# Altium footprint library 8channel.PcbLib: 84 footprints (part 1 of 6)
Each footprint in its own frame and in the unit in brackets; x right, y up, seen from the top. Pads: shape width x height; smd on the part's side, far side on the other; paste and mask are expansions set on the pad; w line width, h text height; cw(c..) or ccw(c..) is an arc to the next point about the centre after c.
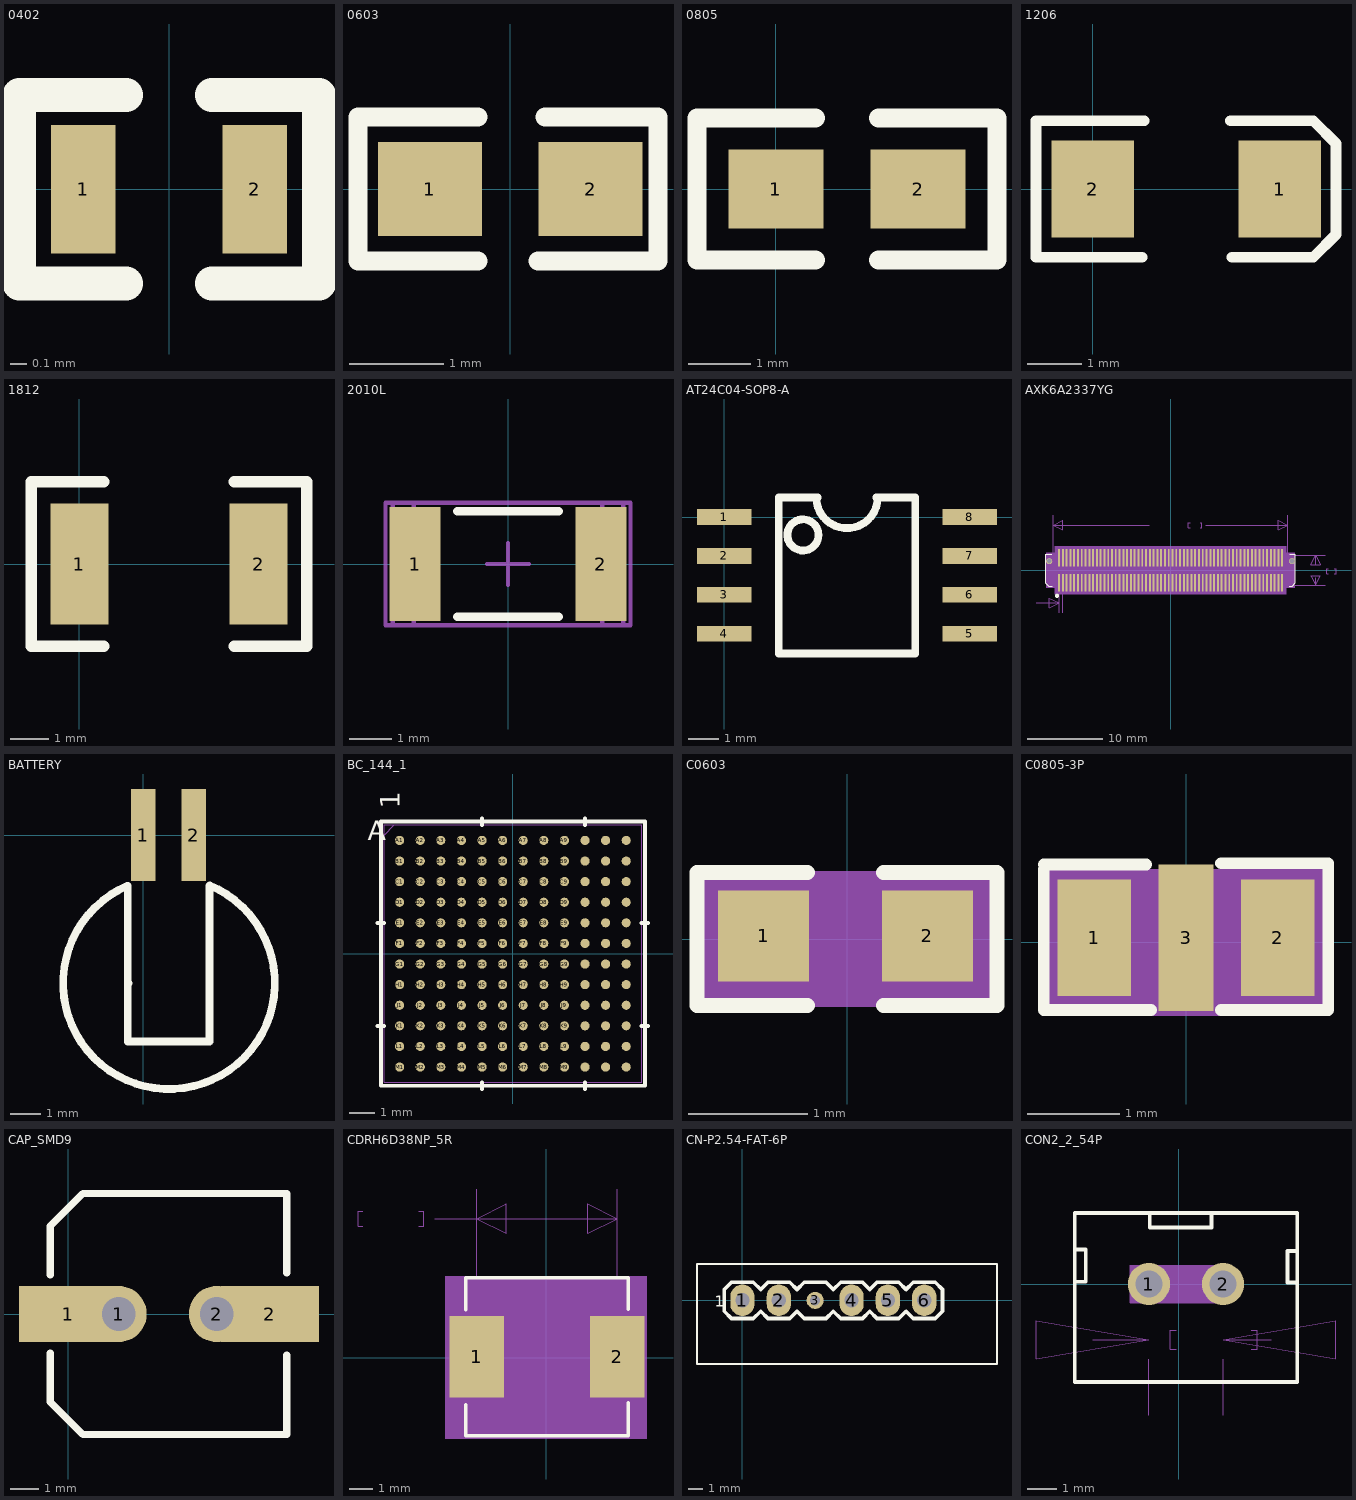
[diagram p0: the footprints below, top view; thin cyan lines are the x and y axes]

## 0402 [mil]
height 230
pads (2):
  rect 15x30 smd: 1(-20,0) 2(20,0)
Top Overlay:
  lines w7.87: -10,-22 -35,-22 -35,22 -10,22 ; 10,-22 35,-22 35,22 10,22

## 0603 [mm]
height 5.842
pads (2):
  rect 1.1x1 smd: 1(-0.85,0) 2(0.85,0)
Top Overlay:
  lines w0.2: -0.342,-0.762 -1.612,-0.762 -1.612,0.762 -0.342,0.762 ; 0.293,-0.762 1.563,-0.762 1.563,0.762 0.367,0.762

## 0805 [mil]
height 230
pads (2):
  rect 60x50 smd: 1(0,0) 2(90,0)
Top Overlay:
  lines w12: 25,-45 -50,-45 -50,45 25,45 ; 65,-45 140,-45 140,45 65,45

## 1206 [mm]
height 5.842
pads (2):
  rect 1.524x1.8 smd: 1(3.45,0) 2(0,0)
Top Overlay:
  lines w0.2: 0.91,-1.26 -1.05,-1.26 -1.05,1.26 0.95,1.26 ; 2.54,1.26 4.07,1.26 4.49,0.84 4.49,-0.84 4.07,-1.26 2.57,-1.26

## 1812 [mil]
pads (2):
  rect 60x125 smd: 1(0,0.06) 2(185,0.06)
Top Overlay:
  lines w12: 25,-84.94 -50,-84.94 -50,85.06 25,85.06 ; 160,-84.94 235,-84.94 235,85.06 160,85.06

## 2010L [mm] "pitch=4.3mm"
height 0.71
pads (2):
  rect 1.2x2.7 smd: 1(-2.2,0) 2(2.2,0)
Top Overlay:
  lines w0.2: -1.2,-1.25 1.2,-1.25 ; -1.2,1.25 1.2,1.25
Mechanical 5:
  lines w0.1: -2.73,-1.45 -2.73,1.45 2.73,1.45 2.73,-1.45 -2.73,-1.45
  text ".Designator" at 4.191,-0.508 h0.76
Mechanical 13:
  lines w0.1: -2.23,-1.45 -2.23,1.45 ; 2.23,-1.45 2.23,1.45 ; -2.73,-1.45 2.73,-1.45 2.73,1.45 -2.73,1.45 -2.73,-1.45
Mechanical 15:
  lines w0.1: -0.5,0 0.5,0 ; 0,-0.5 0,0.5 ; -2.9,-1.45 -2.9,1.45 2.9,1.45 2.9,-1.45 -2.9,-1.45
3D body: height 1.66, standoff 0, extent -2.729,-1.449 -2.231,1.449
3D body: height 1.66, standoff 0, extent -2.229,-1.449 2.229,1.449
3D body: height 1.66, standoff 0, extent 2.231,-1.449 2.729,1.449

## AT24C04-SOP8-A [mil]
pads (8):
  rect 70x20 smd: 1(0,0) 2(0,-50) 3(0,-100) 4(0,-150) 5(315,-150) 6(315,-100) 7(315,-50) 8(315,0)
Top Overlay:
  circle w10: c101,-23 r20
  lines w10: 118.13,25 ccw(c157.5,25) 196.87,25 ; 120,25 70,25 70,-175 245,-175 245,25 195,25

## AXK6A2337YG [mm] "AXK6A2337YG"
pads (122):
  rect 0.25x2.3 smd: 1(-14.75,-1.65) 2(-14.75,1.65) 3(-14.25,-1.65) 4(-14.25,1.65) 5(-13.75,-1.65) 6(-13.75,1.65) 7(-13.25,-1.65) 8(-13.25,1.65) 9(-12.75,-1.65) 10(-12.75,1.65) 11(-12.25,-1.65) 12(-12.25,1.65) 13(-11.75,-1.65) 14(-11.75,1.65) 15(-11.25,-1.65) 16(-11.25,1.65) 17(-10.75,-1.65) 18(-10.75,1.65) 19(-10.25,-1.65) 20(-10.25,1.65) 21(-9.75,-1.65) 22(-9.75,1.65) 23(-9.25,-1.65) 24(-9.25,1.65) 25(-8.75,-1.65) 26(-8.75,1.65) 27(-8.25,-1.65) 28(-8.25,1.65) 29(-7.75,-1.65) 30(-7.75,1.65) 31(-7.25,-1.65) 32(-7.25,1.65) 33(-6.75,-1.65) 34(-6.75,1.65) 35(-6.25,-1.65) 36(-6.25,1.65) 37(-5.75,-1.65) 38(-5.75,1.65) 39(-5.25,-1.65) 40(-5.25,1.65) 41(-4.75,-1.65) 42(-4.75,1.65) 43(-4.25,-1.65) 44(-4.25,1.65) 45(-3.75,-1.65) 46(-3.75,1.65) 47(-3.25,-1.65) 48(-3.25,1.65) 49(-2.75,-1.65) 50(-2.75,1.65) 51(-2.25,-1.65) 52(-2.25,1.65) 53(-1.75,-1.65) 54(-1.75,1.65) 55(-1.25,-1.65) 56(-1.25,1.65) 57(-0.75,-1.65) 58(-0.75,1.65) 59(-0.25,-1.65) 60(-0.25,1.65) 61(0.25,-1.65) 62(0.25,1.65) 63(0.75,-1.65) 64(0.75,1.65) 65(1.25,-1.65) 66(1.25,1.65) 67(1.75,-1.65) 68(1.75,1.65) 69(2.25,-1.65) 70(2.25,1.65) 71(2.75,-1.65) 72(2.75,1.65) 73(3.25,-1.65) 74(3.25,1.65) 75(3.75,-1.65) 76(3.75,1.65) 77(4.25,-1.65) 78(4.25,1.65) 79(4.75,-1.65) 80(4.75,1.65) 81(5.25,-1.65) 82(5.25,1.65) 83(5.75,-1.65) 84(5.75,1.65) 85(6.25,-1.65) 86(6.25,1.65) 87(6.75,-1.65) 88(6.75,1.65) 89(7.25,-1.65) 90(7.25,1.65) 91(7.75,-1.65) 92(7.75,1.65) 93(8.25,-1.65) 94(8.25,1.65) 95(8.75,-1.65) 96(8.75,1.65) 97(9.25,-1.65) 98(9.25,1.65) 99(9.75,-1.65) 100(9.75,1.65) 101(10.25,-1.65) 102(10.25,1.65) 103(10.75,-1.65) 104(10.75,1.65) 105(11.25,-1.65) 106(11.25,1.65) 107(11.75,-1.65) 108(11.75,1.65) 109(12.25,-1.65) 110(12.25,1.65) 111(12.75,-1.65) 112(12.75,1.65) 113(13.25,-1.65) 114(13.25,1.65) 115(13.75,-1.65) 116(13.75,1.65) 117(14.25,-1.65) 118(14.25,1.65) 119(14.75,-1.65) 120(14.75,1.65)
  round 0.8 hole 0.65: 121(-16.05,1.2) 122(16.05,1.2)
Top Overlay:
  circle w0.254: c-15.037,-3.378 r0.148
  lines w0.152: -15.697,2.1 -16.504,2.1 -16.504,-1.725 -16.129,-2.1 -15.621,-2.1 ; 15.697,-2.1 16.055,-2.1 16.504,-1.651 16.504,2.1 15.773,2.1
  text ".Designator" at -1.117,-4.873 h0.76
Mechanical 10:
  text "98" at 9.25,1.142 h0.76
  text "100" at 9.75,0.888 h0.76
  text "121" at -16.05,0.438 h0.76
  text "122" at 16.05,0.438 h0.76
  text "31" at -7.25,-2.158 h0.76
  text "39" at -5.25,-2.158 h0.76
  text "49" at -2.75,-2.158 h0.76
  text "7" at -13.25,-1.904 h0.76
  text "93" at 8.25,-2.158 h0.76
  text "97" at 9.25,-2.158 h0.76
  text "9" at -12.75,-1.904 h0.76
  text "99" at 9.75,-2.158 h0.76
  text "79" at 4.75,-2.158 h0.76
  text "61" at 0.25,-2.158 h0.76
  text "57" at -0.75,-2.158 h0.76
  text "63" at 0.75,-2.158 h0.76
  text "73" at 3.25,-2.158 h0.76
  text "101" at 10.25,-2.412 h0.76
  text "102" at 10.25,0.888 h0.76
  text "95" at 8.75,-2.158 h0.76
  text "96" at 8.75,1.142 h0.76
  text "89" at 7.25,-2.158 h0.76
  text "90" at 7.25,1.142 h0.76
  text "83" at 5.75,-2.158 h0.76
  text "84" at 5.75,1.142 h0.76
  text "77" at 4.25,-2.158 h0.76
  text "78" at 4.25,1.142 h0.76
  text "71" at 2.75,-2.158 h0.76
  text "72" at 2.75,1.142 h0.76
  text "65" at 1.25,-2.158 h0.76
  text "66" at 1.25,1.142 h0.76
  text "59" at -0.25,-2.158 h0.76
  text "60" at -0.25,1.142 h0.76
  text "53" at -1.75,-2.158 h0.76
  text "47" at -3.25,-2.158 h0.76
  text "48" at -3.25,1.142 h0.76
  text "41" at -4.75,-2.158 h0.76
  text "42" at -4.75,1.142 h0.76
  text "35" at -6.25,-2.158 h0.76
  text "36" at -6.25,1.142 h0.76
  text "29" at -7.75,-2.158 h0.76
  text "30" at -7.75,1.142 h0.76
  text "23" at -9.25,-2.158 h0.76
  text "24" at -9.25,1.142 h0.76
  text "17" at -10.75,-2.158 h0.76
  text "18" at -10.75,1.142 h0.76
  text "11" at -12.25,-2.158 h0.76
  text "12" at -12.25,1.142 h0.76
  text "5" at -13.75,-1.904 h0.76
  text "6" at -13.75,1.396 h0.76
  text "54" at -1.75,1.142 h0.76
  text "107" at 11.75,-2.412 h0.76
  text "109" at 12.25,-2.412 h0.76
  text "108" at 11.75,0.888 h0.76
  text "110" at 12.25,0.888 h0.76
  text "111" at 12.75,-2.412 h0.76
  text "113" at 13.25,-2.412 h0.76
  text "112" at 12.75,0.888 h0.76
  text "114" at 13.25,0.888 h0.76
  text "115" at 13.75,-2.412 h0.76
  text "117" at 14.25,-2.412 h0.76
  text "119" at 14.75,-2.412 h0.76
  text "116" at 13.75,0.888 h0.76
  text "118" at 14.25,0.888 h0.76
  text "120" at 14.75,0.888 h0.76
  text "75" at 3.75,-2.158 h0.76
  text "88" at 6.75,1.142 h0.76
  text "81" at 5.25,-2.158 h0.76
  text "1" at -14.75,-1.904 h0.76
  text "62" at 0.25,1.142 h0.76
  text "50" at -2.75,1.142 h0.76
  text "52" at -2.25,1.142 h0.76
  text "58" at -0.75,1.142 h0.76
  text "64" at 0.75,1.142 h0.76
  text "82" at 5.25,1.142 h0.76
  text "74" at 3.25,1.142 h0.76
  text "68" at 1.75,1.142 h0.76
  text "37" at -5.75,-2.158 h0.76
  text "33" at -6.75,-2.158 h0.76
  text "14" at -11.75,1.142 h0.76
  text "26" at -8.75,1.142 h0.76
  text "16" at -11.25,1.142 h0.76
  text "20" at -10.25,1.142 h0.76
  text "22" at -9.75,1.142 h0.76
  text "38" at -5.75,1.142 h0.76
  text "34" at -6.75,1.142 h0.76
  text "40" at -5.25,1.142 h0.76
  text "44" at -4.25,1.142 h0.76
  text "28" at -8.25,1.142 h0.76
  text "8" at -13.25,1.396 h0.76
  text "4" at -14.25,1.396 h0.76
  text "2" at -14.75,1.396 h0.76
  text "10" at -12.75,1.142 h0.76
  text "32" at -7.25,1.142 h0.76
  text "91" at 7.75,-2.158 h0.76
  text "45" at -3.75,-2.158 h0.76
  text "46" at -3.75,1.142 h0.76
  text "85" at 6.25,-2.158 h0.76
  text "25" at -8.75,-2.158 h0.76
  text "55" at -1.25,-2.158 h0.76
  text "94" at 8.25,1.142 h0.76
  text "87" at 6.75,-2.158 h0.76
  text "3" at -14.25,-1.904 h0.76
  text "27" at -8.25,-2.158 h0.76
  text "80" at 4.75,1.142 h0.76
  text "70" at 2.25,1.142 h0.76
  text "15" at -11.25,-2.158 h0.76
  text "13" at -11.75,-2.158 h0.76
  text "19" at -10.25,-2.158 h0.76
  text "21" at -9.75,-2.158 h0.76
  text "76" at 3.75,1.142 h0.76
  text "56" at -1.25,1.142 h0.76
  text "92" at 7.75,1.142 h0.76
  text "103" at 10.75,-2.412 h0.76
  text "105" at 11.25,-2.412 h0.76
  text "104" at 10.75,0.888 h0.76
  text "106" at 11.25,0.888 h0.76
  text "67" at 1.75,-2.158 h0.76
  text "86" at 6.25,1.142 h0.76
  text "51" at -2.25,-2.158 h0.76
  text "43" at -4.25,-2.158 h0.76
  text "69" at 2.25,-2.158 h0.76
Mechanical 11:
  lines w0.025: -17.799,-4.318 -14.75,-4.318 ; -15.5,0.22 -15.5,7.239 ; -14.75,-5.588 -14.75,-3.27 ; -14.25,-5.588 -14.25,-3.27 ; -2.838,5.969 -15.5,5.969 ; 2.565,5.651 2.362,5.651 2.362,6.286 2.565,6.286 ; 3.937,5.651 4.14,5.651 4.14,6.286 3.937,6.286 ; 4.616,5.969 15.5,5.969 ; 15.5,2.32 15.5,7.239 ; 16.02,-2 20.447,-2 ; 16.02,2 20.447,2 ; 19.177,-0.972 19.177,-2 ; 19.177,0.718 19.177,2 ; 20.853,-0.445 20.65,-0.445 20.65,0.191 20.853,0.191 ; 21.666,-0.445 21.869,-0.445 21.869,0.191 21.666,0.191 ; -15.5,5.969 -14.23,5.334 -14.23,6.604 -15.5,5.969 ; -14.75,-4.318 -16.02,-3.683 -16.02,-4.953 -14.75,-4.318 ; 15.5,5.969 14.23,6.604 14.23,5.334 15.5,5.969 ; 19.177,-2 19.812,-0.73 18.542,-0.73 19.177,-2 ; 19.177,2 18.542,0.73 19.812,0.73 19.177,2
  text "31" at 2.769,5.651 h0.76
  text "1220.48" at -2.311,5.651 h0.76
  text "4" at 21.057,-0.445 h0.76
  text "157.48" at 16.535,-0.445 h0.76
  text "0.5" at -13.31,-4.635 h0.76
  text "19.69" at -17.272,-4.635 h0.76
Mechanical 12:
  region: -16.44,2.291 -15.315,2.291 -15.315,3.19 15.315,3.19 15.315,2.291 16.44,2.291 16.44,-2.291 15.315,-2.291 15.315,-3.19 -15.315,-3.19 -15.315,-2.291 -16.44,-2.291
3D body: height 3.81, standoff 0, extent -16.44,-3.19 16.44,3.19

## BATTERY [mm]
pads (2):
  rect 0.8x3 smd: 1(0,0) 2(1.651,0)
Top Overlay:
  lines w0.254: -0.508,-4.851 -0.483,-4.826 ; 2.159,-1.651 2.159,-6.731 -0.508,-6.731 -0.508,-1.651 ccw(c0.838,-4.826) 2.163,-1.642

## BC_144_1 [mm]
pads (144):
  round 0.356 smd: A1(-4.4,4.4) A2(-3.6,4.4) A3(-2.8,4.4) A4(-2,4.4) A5(-1.2,4.4) A6(-0.4,4.4) A7(0.4,4.4) A8(1.2,4.4) A9(2,4.4) A10(2.8,4.4) A11(3.6,4.4) A12(4.4,4.4) B1(-4.4,3.6) B2(-3.6,3.6) B3(-2.8,3.6) B4(-2,3.6) B5(-1.2,3.6) B6(-0.4,3.6) B7(0.4,3.6) B8(1.2,3.6) B9(2,3.6) B10(2.8,3.6) B11(3.6,3.6) B12(4.4,3.6) C1(-4.4,2.8) C2(-3.6,2.8) C3(-2.8,2.8) C4(-2,2.8) C5(-1.2,2.8) C6(-0.4,2.8) C7(0.4,2.8) C8(1.2,2.8) C9(2,2.8) C10(2.8,2.8) C11(3.6,2.8) C12(4.4,2.8) D1(-4.4,2) D2(-3.6,2) D3(-2.8,2) D4(-2,2) D5(-1.2,2) D6(-0.4,2) D7(0.4,2) D8(1.2,2) D9(2,2) D10(2.8,2) D11(3.6,2) D12(4.4,2) E1(-4.4,1.2) E2(-3.6,1.2) E3(-2.8,1.2) E4(-2,1.2) E5(-1.2,1.2) E6(-0.4,1.2) E7(0.4,1.2) E8(1.2,1.2) E9(2,1.2) E10(2.8,1.2) E11(3.6,1.2) E12(4.4,1.2) F1(-4.4,0.4) F2(-3.6,0.4) F3(-2.8,0.4) F4(-2,0.4) F5(-1.2,0.4) F6(-0.4,0.4) F7(0.4,0.4) F8(1.2,0.4) F9(2,0.4) F10(2.8,0.4) F11(3.6,0.4) F12(4.4,0.4) G1(-4.4,-0.4) G2(-3.6,-0.4) G3(-2.8,-0.4) G4(-2,-0.4) G5(-1.2,-0.4) G6(-0.4,-0.4) G7(0.4,-0.4) G8(1.2,-0.4) G9(2,-0.4) G10(2.8,-0.4) G11(3.6,-0.4) G12(4.4,-0.4) H1(-4.4,-1.2) H2(-3.6,-1.2) H3(-2.8,-1.2) H4(-2,-1.2) H5(-1.2,-1.2) H6(-0.4,-1.2) H7(0.4,-1.2) H8(1.2,-1.2) H9(2,-1.2) H10(2.8,-1.2) H11(3.6,-1.2) H12(4.4,-1.2) J1(-4.4,-2) J2(-3.6,-2) J3(-2.8,-2) J4(-2,-2) J5(-1.2,-2) J6(-0.4,-2) J7(0.4,-2) J8(1.2,-2) J9(2,-2) J10(2.8,-2) J11(3.6,-2) J12(4.4,-2) K1(-4.4,-2.8) K2(-3.6,-2.8) K3(-2.8,-2.8) K4(-2,-2.8) K5(-1.2,-2.8) K6(-0.4,-2.8) K7(0.4,-2.8) K8(1.2,-2.8) K9(2,-2.8) K10(2.8,-2.8) K11(3.6,-2.8) K12(4.4,-2.8) L1(-4.4,-3.6) L2(-3.6,-3.6) L3(-2.8,-3.6) L4(-2,-3.6) L5(-1.2,-3.6) L6(-0.4,-3.6) L7(0.4,-3.6) L8(1.2,-3.6) L9(2,-3.6) L10(2.8,-3.6) L11(3.6,-3.6) L12(4.4,-3.6) M1(-4.4,-4.4) M2(-3.6,-4.4) M3(-2.8,-4.4) M4(-2,-4.4) M5(-1.2,-4.4) M6(-0.4,-4.4) M7(0.4,-4.4) M8(1.2,-4.4) M9(2,-4.4) M10(2.8,-4.4) M11(3.6,-4.4) M12(4.4,-4.4)
Top Overlay:
  lines w0.152: -5.254,-2.8 -5,-2.8 ; -5.254,1.2 -5,1.2 ; -1.2,-5.254 -1.2,-5 ; -1.2,5 -1.2,5.254 ; 2.8,-5.254 2.8,-5 ; 2.8,5 2.8,5.254 ; 5,-2.8 5.254,-2.8 ; 5,1.2 5.254,1.2 ; -5.127,-5.127 5.127,-5.127 5.127,5.127 -5.127,5.127 -5.127,-5.127
  text "A" at -5.635,4.4 h0.76
  text "1" at -4.4,5.635 h0.76
Bottom Overlay:
  text "A" at -5.635,4.4 h0.76
  text "1" at -4.4,5.635 h0.76
Mechanical 1:
  lines w0: -5,4.6 -4.6,5 ; -5,-5 5,-5 5,5 -5,5 -5,-5
  text "A" at -5.635,4.4 h0.76
  text "M" at -5.635,-4.4 h0.76
  text "1" at -4.4,5.635 h0.76
  text "12" at 4.4,5.635 h0.76
  text "RefDes2" at 0,0 h0.76

## C0603 [mil] "C0603"
height 230
pads (2):
  rect 30x30 smd: 1(-27.5,1) 2(26.5,1)
Top Overlay:
  lines w5: -13,-22 -49.5,-22 -49.5,22 -13,22 ; 12,-22 49.5,-22 49.5,22 12,22
Mechanical 9:
  text "2" at 26.5,-9 h30
  text "1" at -27.5,-9 h30
Mechanical 10:
  lines w1: -49.5,-22 49.5,-22 49.5,22 -49.5,22 -49.5,-22
Mechanical 11:
  region: -49.5,-22 49.5,-22 49.5,22 -49.5,22

## C0805-3P [mm] "C0805，NFM or NFL"
pads (3):
  rect 0.8x1.27 smd: 1(-1,0.051) 2(1,0.051)
  rect 0.6x1.6 smd: 3(0,0.051)
Top Overlay:
  lines w0.127: -1.549,-0.737 -0.381,-0.737 ; -1.549,-0.724 -1.549,0.8 ; -1.549,0.851 -0.432,0.851 ; 0.381,-0.737 1.549,-0.737 ; 0.381,0.864 1.549,0.864 1.549,-0.711
Mechanical 10:
  text "1" at -0.838,-0.203 h0.76
  text "2" at 0.838,-0.203 h0.76
Mechanical 12:
  region: -1.549,-0.787 1.549,-0.787 1.549,0.787 -1.549,0.787
Mechanical 13:
  lines w0.025: -1.549,-0.787 1.549,-0.787 1.549,0.787 -1.549,0.787 -1.549,-0.787
3D body: height 3.81, standoff 0, extent -1.549,-0.787 1.549,0.787

## CAP_SMD9 [mm]
height 1.6
pads (4):
  rect 3.5x2 smd: 1(0,0) 2(7.2,0)
  round 2 hole 1.2: 1(1.805,0) 2(5.307,0)
Top Overlay:
  lines w0.254: -0.635,-1.397 -0.635,-3.139 0.526,-4.3 1.16,-4.3 7.8,-4.3 ; -0.635,1.397 -0.635,3.139 0.526,4.3 1.16,4.3 7.8,4.3 7.8,1.471 ; 1.143,-4.3 7.8,-4.3 ; 7.8,-1.471 7.8,-4.3

## CDRH6D38NP_5R [mil] "CDRH6D38NP_5R,magnetica shield,7x7mm"
height 157.48
pads (2):
  rect 92.5x137.8 smd: 1(-117.59,1.5) 2(120.59,1.5)
Top Overlay:
  lines w6: -136.3,-79.5 -136.3,-132.36 139.3,-132.36 139.3,-76.5 ; -136.3,81.5 -136.3,135.36 139.3,135.36 139.3,82.5
Mechanical 10:
  text "1" at -107.59,1.5 h30
  text "2" at 130.59,1.5 h30
Mechanical 12:
  region: -170.5,137.5 -170.5,-137.5 170.5,-137.5 170.5,137.5
Mechanical 13:
  lines w1: -310.5,223 -318.5,223 -318.5,248 -310.5,248 ; -215.5,223 -207.5,223 -207.5,248 -215.5,248 ; -188.75,235.5 -117.59,235.5 ; -117.59,51.5 -117.59,285.5 ; 120.59,51.5 120.59,285.5 ; -117.59,235.5 -67.59,260.5 -67.59,210.5 -117.59,235.5 ; -117.59,235.5 120.59,235.5 ; 120.59,235.5 70.59,210.5 70.59,260.5 120.59,235.5
  text "6.05" at -302.5,223 h30
  text "238.19" at -475.5,223 h30
3D body: height 150, standoff 0, extent -170.5,-137.5 170.5,137.5

## CN-P2.54-FAT-6P [mm]
height 10
pads (6):
  oval 1.7x2.2 hole 1: 1(0,0) 2(2.54,0) 4(7.62,0) 5(10.16,0) 6(12.7,0)
  round 1.2 hole 0.7: 3(5.08,0)
Top Overlay:
  lines w0.152: -3.175,-4.445 -3.175,2.54 17.78,2.54 17.78,-4.445 -3.175,-4.445
  lines w0.254: -1.27,-0.762 -0.762,-1.27 0.762,-1.27 1.27,-0.762 1.778,-1.27 3.302,-1.27 3.81,-0.762 4.318,-1.27 5.842,-1.27 6.35,-0.762 6.858,-1.27 8.382,-1.27 8.89,-0.762 9.398,-1.27 10.922,-1.27 11.43,-0.762 11.938,-1.27 13.462,-1.27 13.97,-0.762 13.97,0.762 13.462,1.27 11.938,1.27 11.43,0.762 10.922,1.27 9.398,1.27 8.89,0.762 8.382,1.27 6.858,1.27 6.35,0.762 5.842,1.27 4.318,1.27 3.81,0.762 3.302,1.27 1.778,1.27 1.27,0.762 0.762,1.27 -0.762,1.27 -1.27,0.762 -1.27,-0.762
  text "1" at -1.934,-0.433 h0.76
Bottom Overlay:
  lines w0.508: 1.27,-0.7 1.27,0.7 ; 3.81,-0.7 3.81,0.7 ; 6.35,-0.7 6.35,0.7 ; 8.89,-0.7 8.89,0.7 ; 11.43,-0.7 11.43,0.7
3D body: height 2.5, standoff 0, extent 8.89,-1.27 11.43,1.27
3D body: height 8.5, standoff -2, extent 9.81,-0.35 10.51,0.35
3D body: height 2.5, standoff 0, extent 6.35,-1.27 8.89,1.27
3D body: height 2.5, standoff 0, extent 3.81,-1.27 6.35,1.27
3D body: height 8.5, standoff -2, extent 4.73,-0.35 5.43,0.35
3D body: height 8.5, standoff -2, extent 7.27,-0.35 7.97,0.35
3D body: height 2.5, standoff 0, extent 1.27,-1.27 3.81,1.27
3D body: height 2.5, standoff 0, extent -1.27,-1.27 1.27,1.27
3D body: height 8.5, standoff -2, extent -0.35,-0.35 0.35,0.35
3D body: height 8.5, standoff -2, extent 2.19,-0.35 2.89,0.35
3D body: height 8.5, standoff -2, extent 12.35,-0.35 13.05,0.35
3D body: height 2.5, standoff 0, extent 11.43,-1.27 13.97,1.27

## CON2_2_54P [mil] "CON2_2_54P"
pads (2):
  round 56 hole 36: 1(-39.37,0) 2(59.06,0)
Top Overlay:
  lines w5: -137.37,3 -123.37,3 -123.37,46 -136.37,46 ; -38.37,93 -38.37,75 43.63,75 43.63,94 ; 155.63,2 144.63,2 144.63,44 156.63,44 ; -137.8,-129.92 -137.8,94.49 157.48,94.49 157.48,-129.92 -137.8,-129.92
Mechanical 10:
  text "1" at -29.37,0 h30
  text "2" at 69.06,0 h30
Mechanical 11:
  lines w1: -64.37,-25 -64.37,25 64.37,25 64.37,-25 -64.37,-25
Mechanical 12:
  region: -64.37,-25 64.37,-25 64.37,25 -64.37,25
Mechanical 13:
  lines w1: -114.12,-74 -39.37,-74 ; -39.37,-174 -39.37,-100 ; -3.37,-86.5 -11.37,-86.5 -11.37,-61.5 -3.37,-61.5 ; 59.06,-174 59.06,-100 ; 96.63,-86.5 104.63,-86.5 104.63,-61.5 96.63,-61.5 ; 123.38,-74 59.06,-74 ; -39.37,-74 -189.37,-49 -189.37,-99 -39.37,-74 ; 59.06,-74 209.06,-99 209.06,-49 59.06,-74
  text "98.43" at 4.63,-86.5 h30
  text "2.5" at -95.37,-86.5 h30
3D body: height 150, standoff 0, extent -64.37,-25 64.37,25